# EAGLE library part 615006149421L (library WR-MJ)
WR-MJ Cat 3 Modular Jacks – THT Characteristics Shieldingless and Shielded with EMI-Spring option Optional LEDs in various sequences Vertical and Horizontal orientation Stacked and assembled configurations Tray Packaging Properties PoE++ Compatible up to 100W (IEEE 802.3bt) UL and cULus-Certified UL94-V0 insulator material Ethernet Category 3 – Category 5 under conditions Applications Networks Internet of Things mart Buildings <https://www.we-online.com/components/media/o863419v209%20multi-WR-MJTH-615002138421.jpg> Details see: www.we-online.com/en/components/products/WR_MJ_MODULAR_JACKS_THT <www.we-online.com/catalog/WR_MJ_MODULAR_JACKS_THT/?utm_source=eagle_model&utm_medium=description_link&utm_campaign=eisos_eagle> Updated by Yingchun Shan 2020-01-06 2020(C) Würth Elektronik
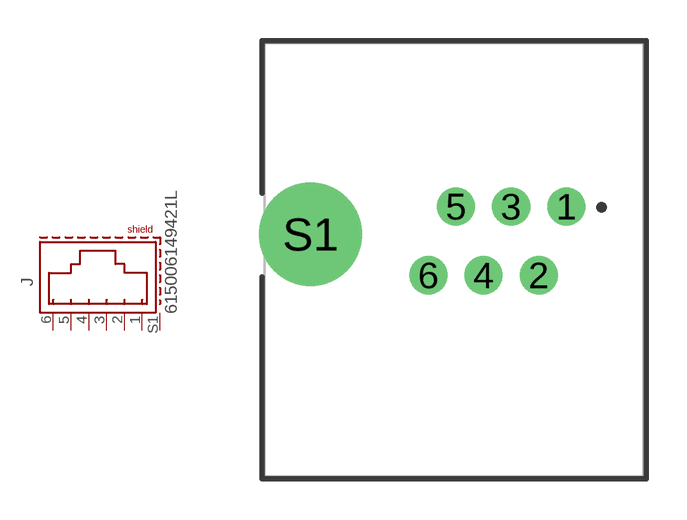
[diagram p72: symbol with the pads of 615006149421L; footprint 615006149421L]

Designator prefix J

## 615006149421L (DATASHEET-URL: https://www.we-online.com/redexpert/spec/615006149421L?ae; EMI: No; LED: /; MOUNT: THT; PART-NUMBER: 615006149421L; SIZE: Horizontal; TAB: Up; VALUE: 615006149421L; XPXC: 6P6C)  [615006149421L]
1  1  pas
2  2  pas
3  3  pas
4  4  pas
5  5  pas
6  6  pas
S1  SHIELD  pas

## Footprint 615006149421L (pad centres in mm)
WR-MJ Modular Jack Horizontal Plastic 6P6C Assembly Tab Up
drill 0.9: 1 5.1,1; 2 4.08,-1.54; 3 3.06,1; 4 2.04,-1.54; 5 1.02,1; 6 0,-1.54
drill 2.8: S1 -4.35,-0.03